# Altium integrated library TI Data Converters Analog to Digital Converter.IntLib: 2197 symbols (part 155 of 168)
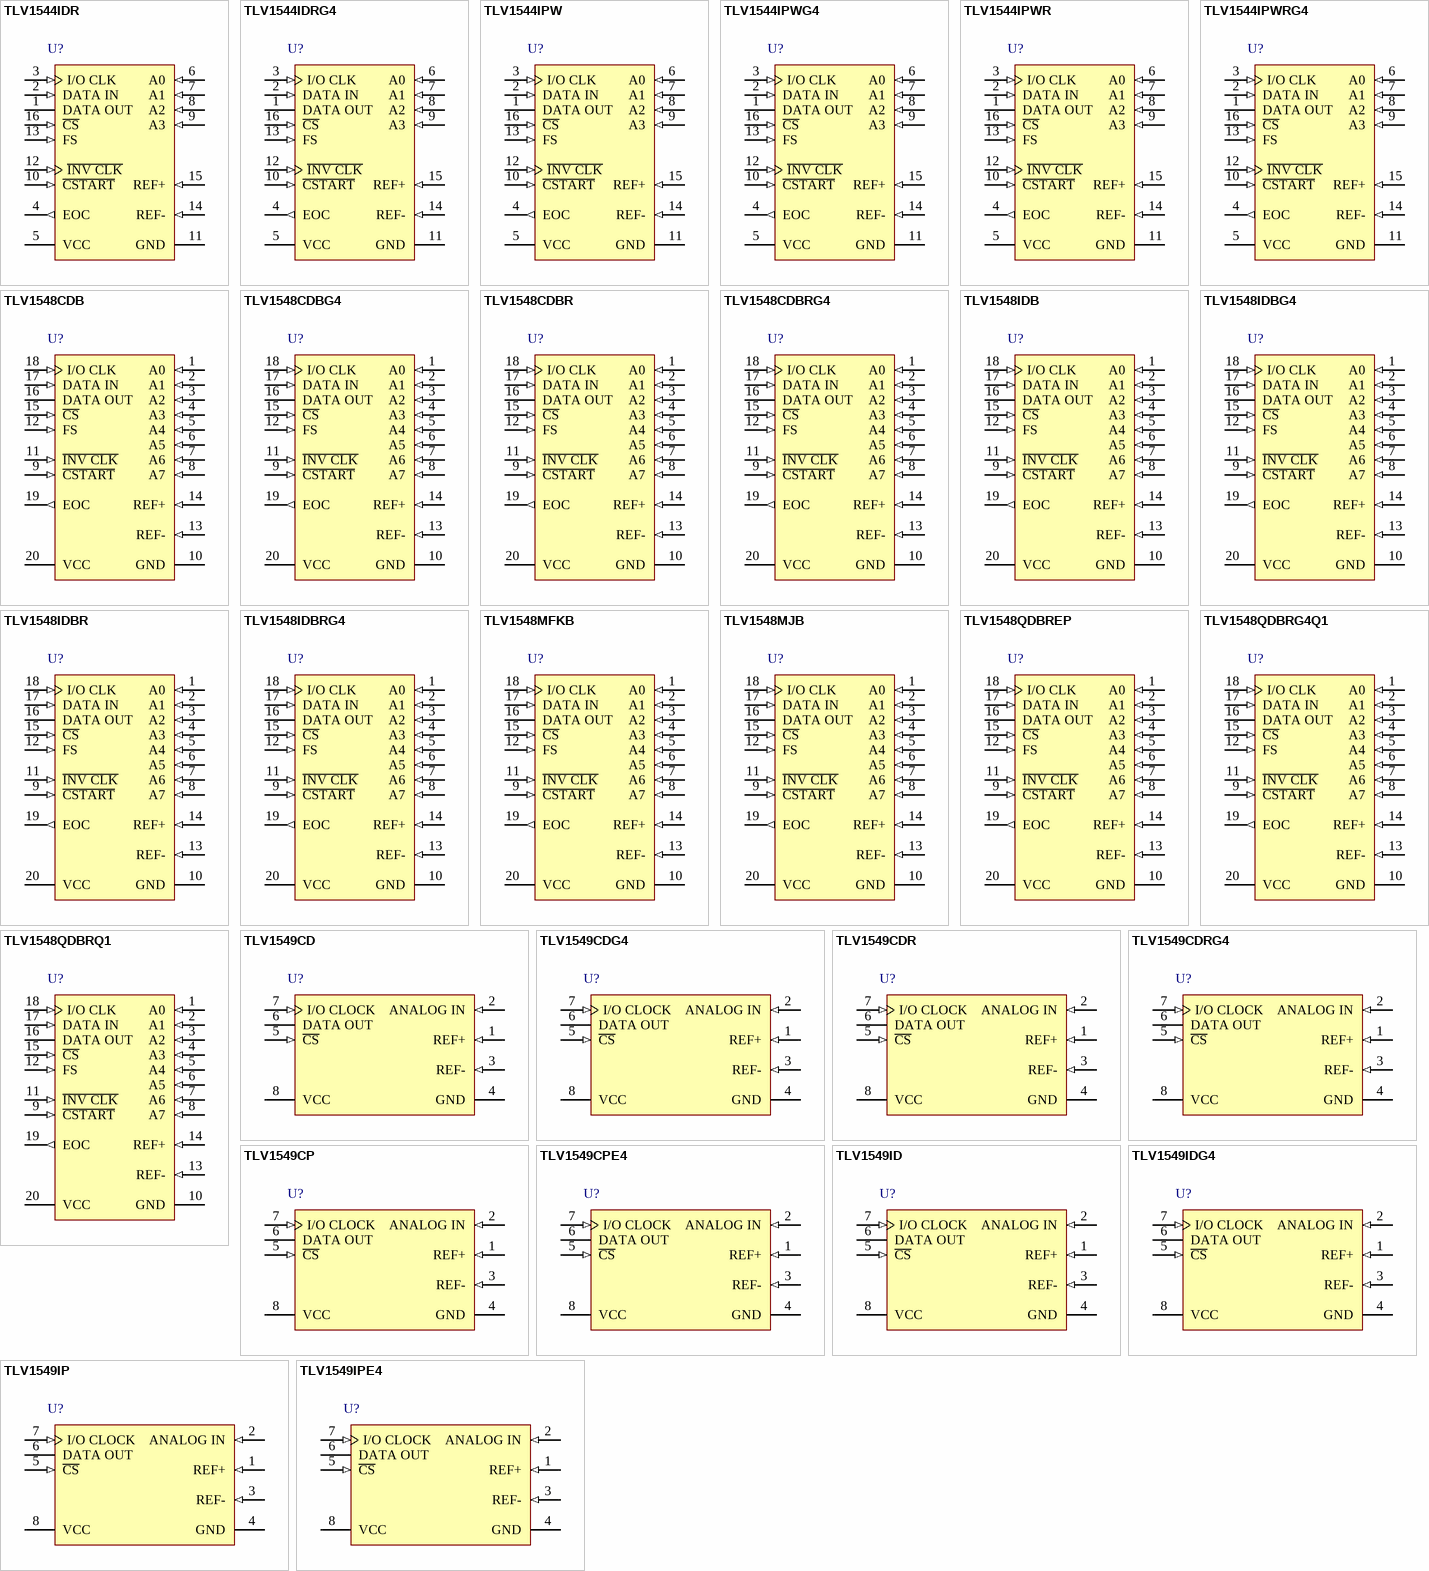
[diagram p280: symbols TLV1544IDR to TLV1549IPE4]

## TLV1548QDBRQ1
designator U?
Automotive Catalog Low-Voltage 10-Bit ADC with Serial Control & 8 Analog Inputs, -40 to 125 degC, 20-pin SOP (DB20), Green (RoHS & no Sb/Br); Manufacturer: Texas Instruments; PartNumber: TLV1548QDBRQ1; # Input Channels: 8; Analog Voltage AV/DD(Max)(V): 5.5; Analog Voltage AV/DD(Min)(V): 2.7; Architecture: SAR; INL(Max)(+/-LSB): 1; Interface: Serial SPI; Resolution(Bits): 10; Sample Rate (max)(SPS): 85k; SubFamily: Precision ADC (<=10MSPS); DatasheetVersion: SGLS172B; PackageVersion: 4040065/E, 12/2001; PackageReference: DB20; PackageDescription: 20-Pin Plastic Small Outline, Body 5.3 x 7.2 mm, Pitch 0.65 mm; Supplier 1: Digi-Key; Supplier Part Number 1: ADS1148IPWR-ND; Supplier 2: Mouser; Supplier Part Number 2: 595-ADS1148IPWR; Digital Supply(Max)(V): 5.5; Digital Supply(Min)(V): 2.7; Eco-Plan: Green (RoHS & no Sb/Br); Mounting Technology: Surface Mount; Code_JEDEC: MO-150; ComponentLink1Description: Manufacturer URL; ComponentLink1URL: http://www.ti.com/; ComponentLink2Description: Datasheet; ComponentLink2URL: http://www.ti.com/general/docs/lit/getliterature.tsp?genericPartNumber=TLV1548-Q1&fileType=pdf; ComponentLink3Description: Package Specification; ComponentLink3URL: http://www.ti.com/lit/ml/msso002e/msso002e.pdf
footprint TI-DB20_N (SOP, 20-Leads, Body 7.2x5.3mm, Pitch 0.65mm, IPC Medium Density)
footprint TI-DB20_L (SOP, 20-Leads, Body 7.2x5.3mm, Pitch 0.65mm, IPC High Density)
footprint TI-DB20_M (SOP, 20-Leads, Body 7.2x5.3mm, Pitch 0.65mm, IPC Low Density)
pins: 1 A0 (in) "Analog inputs. The analog inputs are internally multiplexed. (For a source impedance greater than 1 kohm, the asynchronous start should be used to increase the sampling time.)", 2 A1 (in) "Analog inputs. The analog inputs are internally multiplexed. (For a source impedance greater than 1 kohm, the asynchronous start should be used to increase the sampling time.)", 3 A2 (in) "Analog inputs. The analog inputs are internally multiplexed. (For a source impedance greater than 1 kohm, the asynchronous start should be used to increase the sampling time.)", 4 A3 (in) "Analog inputs. The analog inputs are internally multiplexed. (For a source impedance greater than 1 kohm, the asynchronous start should be used to increase the sampling time.)", 5 A4 (in) "Analog inputs. The analog inputs are internally multiplexed. (For a source impedance greater than 1 kohm, the asynchronous start should be used to increase the sampling time.)", 6 A5 (in) "Analog inputs. The analog inputs are internally multiplexed. (For a source impedance greater than 1 kohm, the asynchronous start should be used to increase the sampling time.)", 7 A6 (in) "Analog inputs. The analog inputs are internally multiplexed. (For a source impedance greater than 1 kohm, the asynchronous start should be used to increase the sampling time.)", 8 A7 (in) "Analog inputs. The analog inputs are internally multiplexed. (For a source impedance greater than 1 kohm, the asynchronous start should be used to increase the sampling time.)", 9 ~{CSTART} (in) "Sampling/conversion start control. C\S\T\A\R\T\ controls the start of the sampling of an analog input from a selected multiplex channel. A high-to-low transition starts the sampling of the analog input signal. A low-to-high (See Datasheet)", 10 GND (power) "Ground return for internal circuitry. All voltage measurements are with respect to GND, unless otherwise noted.", 11 ~{INV CLK} (in) "Inverted clock input. I\N\V\ \C\L\K\ is tied to GND when an inverted I/O CLK is used as the source of the input clock. This affects both microprocessor and DSP interfaces. I\N\V\ \C\L\K\ is tied to VCC if I/O CLK is not (See Datasheet)", 12 FS (in) "DSP frame synchronization input. FS indicates the start of a serial data frame into or out of the device. FS is tied to VCC when interfacing the device with a microprocessor.", 13 REF- (in) "Lower reference voltage (nominally ground)", 14 REF+ (in) "Upper reference voltage (nominally VCC ). The maximum input voltage range is determined by the difference between the voltages applied to REF+ and REF-.", 15 ~{CS} (in) "Chip select. A high-to-low transition on C\S\ resets the internal counters and controls and enables DATA IN, DATA OUT, and I/O CLK within the maximum setup time. A low-to-high transition disables DATA IN, DATA OUT, and I/O (See Datasheet)", 16 DATA OUT (hiz) "The 3-state serial output for the A/D conversion result. DATA OUT is in the high-impedance state when C\S\ is high and active when C\S\ is low. With a valid C\S\, DATA OUT is removed from the high-impedance state and is (See Datasheet)", 17 DATA IN (in) "Serial data input. The 4-bit serial data selects the desired analog input and test voltage to be converted next in a normal cycle. These bits can also set the conversion rate and enable the power-down mode.", 18 I/O CLK (in) "Input/output clock. I/O CLK receives the serial I/O clock input in the two modes and performs the following four functions in each mode:", 19 EOC (out) "End of conversion. EOC goes from a high to a low logic level on the tenth rising (microprocessor mode) or tenth falling (DSP mode) edge of I/O CLK and remains low until the conversion is complete and data is ready for (See Datasheet)", 20 VCC (power) "Positive supply voltage"

## TLV1549CD
designator U?
10-Bit 38 kSPS ADC Serial Out, Inherent S&H Function, Terminal Compatible with TLC1549 and TLC1549x, 0 to 70 degC, 8-pin SOIC (D8), Green (RoHS & no Sb/Br); Manufacturer: Texas Instruments; PartNumber: TLV1549CD; # Input Channels: 1; Analog Voltage AV/DD(Max)(V): 3.6; Analog Voltage AV/DD(Min)(V): 3; Architecture: SAR; Interface: Serial SPI; Resolution(Bits): 10; Sample Rate (max)(SPS): 38K; SubFamily: Low Power, 8-Bit, Dual 1.5 GSPS or Single 3.0 GSPS A/D Converter; DatasheetVersion: SLAS071C; PackageVersion: 4040047-3/M, 06/2011; PackageReference: D8; PackageDescription: 8-Pin Plastic Small Outline, Body 4.9 x 3.9 mm, Pitch 1.27 mm; Supplier 1: Digi-Key; Supplier Part Number 1: 296-27416-5-ND; Supplier 2: Farnell; Supplier Part Number 2: 1823860; Supplier 3: Newark; Supplier Part Number 3: 77R1718; Supplier 4: Mouser; Supplier Part Number 4: 595-ADS1147IPW; Digital Supply(Max)(V): 3.6; Digital Supply(Min)(V): 3; Eco-Plan: Green (RoHS & no Sb/Br); INL(Max)(+/-LSB): 1; Mounting Technology: Surface Mount; Code_JEDEC: MS-012; ComponentLink1Description: Manufacturer URL; ComponentLink1URL: http://www.ti.com/; ComponentLink2Description: Datasheet; ComponentLink2URL: http://www.ti.com/general/docs/lit/getliterature.tsp?genericPartNumber=TLV1549&fileType=pdf; ComponentLink3Description: Package Specification; ComponentLink3URL: http://www.ti.com/litv/pdf/msoi002j
footprint TI-D8_N (SOIC, 8-Leads, Body 4.9x3.9mm, Pitch 1.27mm, IPC Medium Density)
footprint TI-D8_L (SOIC, 8-Leads, Body 4.9x3.9mm, Pitch 1.27mm, IPC High Density)
footprint TI-D8_M (SOIC, 8-Leads, Body 4.9x3.9mm, Pitch 1.27mm, IPC Low Density)
pins: 1 REF+ (in), 2 ANALOG IN (in), 3 REF- (in), 4 GND (power), 5 ~{CS} (in), 6 DATA OUT (hiz), 7 I/O CLOCK (in), 8 VCC (power)

## TLV1549CDG4
designator U?
10-Bit 38 kSPS ADC Serial Out, Inherent S&H Function, Terminal Compatible with TLC1549 and TLC1549x, 0 to 70 degC, 8-pin SOIC (D8), Green (RoHS & no Sb/Br); Manufacturer: Texas Instruments; PartNumber: TLV1549CDG4; # Input Channels: 1; Analog Voltage AV/DD(Max)(V): 3.6; Analog Voltage AV/DD(Min)(V): 3; Architecture: SAR; Interface: Serial SPI; Resolution(Bits): 10; Sample Rate (max)(SPS): 38K; SubFamily: Low Power, 8-Bit, Dual 1.5 GSPS or Single 3.0 GSPS A/D Converter; DatasheetVersion: SLAS071C; PackageVersion: 4040047-3/M, 06/2011; PackageReference: D8; PackageDescription: 8-Pin Plastic Small Outline, Body 4.9 x 3.9 mm, Pitch 1.27 mm; Supplier 1: Digi-Key; Supplier Part Number 1: ADS1147IPWR-ND; Supplier 2: Newark; Supplier Part Number 2: 79R7798; Supplier 3: Mouser; Supplier Part Number 3: 595-ADS1147IPWR; Digital Supply(Max)(V): 3.6; Digital Supply(Min)(V): 3; Eco-Plan: Green (RoHS & no Sb/Br); INL(Max)(+/-LSB): 1; Mounting Technology: Surface Mount; Code_JEDEC: MS-012; ComponentLink1Description: Manufacturer URL; ComponentLink1URL: http://www.ti.com/; ComponentLink2Description: Datasheet; ComponentLink2URL: http://www.ti.com/general/docs/lit/getliterature.tsp?genericPartNumber=TLV1549&fileType=pdf; ComponentLink3Description: Package Specification; ComponentLink3URL: http://www.ti.com/litv/pdf/msoi002j
footprint TI-D8_N (SOIC, 8-Leads, Body 4.9x3.9mm, Pitch 1.27mm, IPC Medium Density)
footprint TI-D8_L (SOIC, 8-Leads, Body 4.9x3.9mm, Pitch 1.27mm, IPC High Density)
footprint TI-D8_M (SOIC, 8-Leads, Body 4.9x3.9mm, Pitch 1.27mm, IPC Low Density)
pins: 1 REF+ (in), 2 ANALOG IN (in), 3 REF- (in), 4 GND (power), 5 ~{CS} (in), 6 DATA OUT (hiz), 7 I/O CLOCK (in), 8 VCC (power)

## TLV1549CDR
designator U?
10-Bit 38 kSPS ADC Serial Out, Inherent S&H Function, Terminal Compatible with TLC1549 and TLC1549x, 0 to 70 degC, 8-pin SOIC (D8), Green (RoHS & no Sb/Br); Manufacturer: Texas Instruments; PartNumber: TLV1549CDR; # Input Channels: 1; Analog Voltage AV/DD(Max)(V): 3.6; Analog Voltage AV/DD(Min)(V): 3; Architecture: SAR; Interface: Serial SPI; Resolution(Bits): 10; Sample Rate (max)(SPS): 38K; SubFamily: Low Power, 8-Bit, Dual 1.5 GSPS or Single 3.0 GSPS A/D Converter; DatasheetVersion: SLAS071C; PackageVersion: 4040047-3/M, 06/2011; PackageReference: D8; PackageDescription: 8-Pin Plastic Small Outline, Body 4.9 x 3.9 mm, Pitch 1.27 mm; Supplier 1: Digi-Key; Supplier Part Number 1: 296-27415-5-ND; Supplier 2: Farnell; Supplier Part Number 2: 1823859; Supplier 3: Newark; Supplier Part Number 3: 77R1717; Supplier 4: Mouser; Supplier Part Number 4: 595-ADS1146IPW; Digital Supply(Max)(V): 3.6; Digital Supply(Min)(V): 3; Eco-Plan: Green (RoHS & no Sb/Br); INL(Max)(+/-LSB): 1; Mounting Technology: Surface Mount; Code_JEDEC: MS-012; ComponentLink1Description: Manufacturer URL; ComponentLink1URL: http://www.ti.com/; ComponentLink2Description: Datasheet; ComponentLink2URL: http://www.ti.com/general/docs/lit/getliterature.tsp?genericPartNumber=TLV1549&fileType=pdf; ComponentLink3Description: Package Specification; ComponentLink3URL: http://www.ti.com/litv/pdf/msoi002j
footprint TI-D8_N (SOIC, 8-Leads, Body 4.9x3.9mm, Pitch 1.27mm, IPC Medium Density)
footprint TI-D8_L (SOIC, 8-Leads, Body 4.9x3.9mm, Pitch 1.27mm, IPC High Density)
footprint TI-D8_M (SOIC, 8-Leads, Body 4.9x3.9mm, Pitch 1.27mm, IPC Low Density)
pins: 1 REF+ (in), 2 ANALOG IN (in), 3 REF- (in), 4 GND (power), 5 ~{CS} (in), 6 DATA OUT (hiz), 7 I/O CLOCK (in), 8 VCC (power)

## TLV1549CDRG4
designator U?
10-Bit 38 kSPS ADC Serial Out, Inherent S&H Function, Terminal Compatible with TLC1549 and TLC1549x, 0 to 70 degC, 8-pin SOIC (D8), Green (RoHS & no Sb/Br); Manufacturer: Texas Instruments; PartNumber: TLV1549CDRG4; # Input Channels: 1; Analog Voltage AV/DD(Max)(V): 3.6; Analog Voltage AV/DD(Min)(V): 3; Architecture: SAR; Interface: Serial SPI; Resolution(Bits): 10; Sample Rate (max)(SPS): 38K; SubFamily: Low Power, 8-Bit, Dual 1.5 GSPS or Single 3.0 GSPS A/D Converter; DatasheetVersion: SLAS071C; PackageVersion: 4040047-3/M, 06/2011; PackageReference: D8; PackageDescription: 8-Pin Plastic Small Outline, Body 4.9 x 3.9 mm, Pitch 1.27 mm; Supplier 1: Digi-Key; Supplier Part Number 1: ADS1146IPWR-ND; Supplier 2: Mouser; Supplier Part Number 2: 595-ADS1146IPWR; Digital Supply(Max)(V): 3.6; Digital Supply(Min)(V): 3; Eco-Plan: Green (RoHS & no Sb/Br); INL(Max)(+/-LSB): 1; Mounting Technology: Surface Mount; Code_JEDEC: MS-012; ComponentLink1Description: Manufacturer URL; ComponentLink1URL: http://www.ti.com/; ComponentLink2Description: Datasheet; ComponentLink2URL: http://www.ti.com/general/docs/lit/getliterature.tsp?genericPartNumber=TLV1549&fileType=pdf; ComponentLink3Description: Package Specification; ComponentLink3URL: http://www.ti.com/litv/pdf/msoi002j
footprint TI-D8_N (SOIC, 8-Leads, Body 4.9x3.9mm, Pitch 1.27mm, IPC Medium Density)
footprint TI-D8_L (SOIC, 8-Leads, Body 4.9x3.9mm, Pitch 1.27mm, IPC High Density)
footprint TI-D8_M (SOIC, 8-Leads, Body 4.9x3.9mm, Pitch 1.27mm, IPC Low Density)
pins: 1 REF+ (in), 2 ANALOG IN (in), 3 REF- (in), 4 GND (power), 5 ~{CS} (in), 6 DATA OUT (hiz), 7 I/O CLOCK (in), 8 VCC (power)

## TLV1549CP
designator U?
10-Bit 38 kSPS ADC Serial Out, Inherent S&H Function, Terminal Compatible with TLC1549 and TLC1549x, 0 to 70 degC, 8-pin DIP (P8), Pb-Free (RoHS); Manufacturer: Texas Instruments; PartNumber: TLV1549CP; # Input Channels: 1; Analog Voltage AV/DD(Max)(V): 3.6; Analog Voltage AV/DD(Min)(V): 3; Architecture: SAR; Interface: Serial SPI; Resolution(Bits): 10; Sample Rate (max)(SPS): 38K; SubFamily: Low Power, 8-Bit, Dual 1.5 GSPS or Single 3.0 GSPS A/D Converter; DatasheetVersion: SLAS071C; PackageVersion: 4040082/E, 04/2010; PackageReference: P8; PackageDescription: 8-Pin Plastic In-Line, Body 9.59 x 6.35 mm, Pitch 2.54 mm; Supplier 1: Digi-Key; Supplier Part Number 1: 296-27203-ND; Supplier 2: Newark; Supplier Part Number 2: 70R1292; Supplier 3: Mouser; Supplier Part Number 3: 595-ADS5400IPZP; Digital Supply(Max)(V): 3.6; Digital Supply(Min)(V): 3; Eco-Plan: Pb-Free (RoHS); INL(Max)(+/-LSB): 1; Mounting Technology: Through Hole; Code_JEDEC: MS-001; ComponentLink1Description: Manufacturer URL; ComponentLink1URL: http://www.ti.com/; ComponentLink2Description: Datasheet; ComponentLink2URL: http://www.ti.com/general/docs/lit/getliterature.tsp?genericPartNumber=TLV1549&fileType=pdf; ComponentLink3Description: Package Specification; ComponentLink3URL: http://www.ti.com/litv/pdf/mpdi001b
footprint TI-P8 (DIP, 8-Leads, Body 9.59x6.35mm, Pitch 2.54mm)
pins: 1 REF+ (in), 2 ANALOG IN (in), 3 REF- (in), 4 GND (power), 5 ~{CS} (in), 6 DATA OUT (hiz), 7 I/O CLOCK (in), 8 VCC (power)

## TLV1549CPE4
designator U?
10-Bit 38 kSPS ADC Serial Out, Inherent S&H Function, Terminal Compatible with TLC1549 and TLC1549x, 0 to 70 degC, 8-pin DIP (P8), Pb-Free (RoHS); Manufacturer: Texas Instruments; PartNumber: TLV1549CPE4; # Input Channels: 1; Analog Voltage AV/DD(Max)(V): 3.6; Analog Voltage AV/DD(Min)(V): 3; Architecture: SAR; Interface: Serial SPI; Resolution(Bits): 10; Sample Rate (max)(SPS): 38K; SubFamily: Low Power, 8-Bit, Dual 1.5 GSPS or Single 3.0 GSPS A/D Converter; DatasheetVersion: SLAS071C; PackageVersion: 4040082/E, 04/2010; PackageReference: P8; PackageDescription: 8-Pin Plastic In-Line, Body 9.59 x 6.35 mm, Pitch 2.54 mm; Supplier 1: Digi-Key; Supplier Part Number 1: ADS5400IPZPR-ND; Supplier 2: Newark; Supplier Part Number 2: 72R4956; Supplier 3: Mouser; Supplier Part Number 3: 595-ADS5400IPZPR; Digital Supply(Max)(V): 3.6; Digital Supply(Min)(V): 3; Eco-Plan: Pb-Free (RoHS); INL(Max)(+/-LSB): 1; Mounting Technology: Through Hole; Code_JEDEC: MS-001; ComponentLink1Description: Manufacturer URL; ComponentLink1URL: http://www.ti.com/; ComponentLink2Description: Datasheet; ComponentLink2URL: http://www.ti.com/general/docs/lit/getliterature.tsp?genericPartNumber=TLV1549&fileType=pdf; ComponentLink3Description: Package Specification; ComponentLink3URL: http://www.ti.com/litv/pdf/mpdi001b
footprint TI-P8 (DIP, 8-Leads, Body 9.59x6.35mm, Pitch 2.54mm)
pins: 1 REF+ (in), 2 ANALOG IN (in), 3 REF- (in), 4 GND (power), 5 ~{CS} (in), 6 DATA OUT (hiz), 7 I/O CLOCK (in), 8 VCC (power)

## TLV1549ID
designator U?
10-Bit 38 kSPS ADC Serial Out, Inherent S&H Function, Terminal Compatible with TLC1549 and TLC1549x, -40 to 85 degC, 8-pin SOIC (D8), Green (RoHS & no Sb/Br); Manufacturer: Texas Instruments; PartNumber: TLV1549ID; # Input Channels: 1; Analog Voltage AV/DD(Max)(V): 3.6; Analog Voltage AV/DD(Min)(V): 3; Architecture: SAR; Interface: Serial SPI; Resolution(Bits): 10; Sample Rate (max)(SPS): 38K; SubFamily: Low Power, 8-Bit, Dual 1.5 GSPS or Single 3.0 GSPS A/D Converter; DatasheetVersion: SLAS071C; PackageVersion: 4040047-3/M, 06/2011; PackageReference: D8; PackageDescription: 8-Pin Plastic Small Outline, Body 4.9 x 3.9 mm, Pitch 1.27 mm; Supplier 1: Digi-Key; Supplier Part Number 1: 296-27183-5-ND; Supplier 2: Farnell; Supplier Part Number 2: 1815709; Supplier 3: Newark; Supplier Part Number 3: 23T0766; Supplier 4: Newark; Supplier Part Number 4: 69R4543; Supplier 5: Mouser; Supplier Part Number 5: 595-ADS1259BIPW; Digital Supply(Max)(V): 3.6; Digital Supply(Min)(V): 3; Eco-Plan: Green (RoHS & no Sb/Br); INL(Max)(+/-LSB): 1; Mounting Technology: Surface Mount; Code_JEDEC: MS-012; ComponentLink1Description: Manufacturer URL; ComponentLink1URL: http://www.ti.com/; ComponentLink2Description: Datasheet; ComponentLink2URL: http://www.ti.com/general/docs/lit/getliterature.tsp?genericPartNumber=TLV1549&fileType=pdf; ComponentLink3Description: Package Specification; ComponentLink3URL: http://www.ti.com/litv/pdf/msoi002j
footprint TI-D8_N (SOIC, 8-Leads, Body 4.9x3.9mm, Pitch 1.27mm, IPC Medium Density)
footprint TI-D8_L (SOIC, 8-Leads, Body 4.9x3.9mm, Pitch 1.27mm, IPC High Density)
footprint TI-D8_M (SOIC, 8-Leads, Body 4.9x3.9mm, Pitch 1.27mm, IPC Low Density)
pins: 1 REF+ (in), 2 ANALOG IN (in), 3 REF- (in), 4 GND (power), 5 ~{CS} (in), 6 DATA OUT (hiz), 7 I/O CLOCK (in), 8 VCC (power)

## TLV1549IDG4
designator U?
10-Bit 38 kSPS ADC Serial Out, Inherent S&H Function, Terminal Compatible with TLC1549 and TLC1549x, -40 to 85 degC, 8-pin SOIC (D8), Green (RoHS & no Sb/Br); Manufacturer: Texas Instruments; PartNumber: TLV1549IDG4; # Input Channels: 1; Analog Voltage AV/DD(Max)(V): 3.6; Analog Voltage AV/DD(Min)(V): 3; Architecture: SAR; Interface: Serial SPI; Resolution(Bits): 10; Sample Rate (max)(SPS): 38K; SubFamily: Low Power, 8-Bit, Dual 1.5 GSPS or Single 3.0 GSPS A/D Converter; DatasheetVersion: SLAS071C; PackageVersion: 4040047-3/M, 06/2011; PackageReference: D8; PackageDescription: 8-Pin Plastic Small Outline, Body 4.9 x 3.9 mm, Pitch 1.27 mm; Supplier 1: Digi-Key; Supplier Part Number 1: ADS1259BIPWR-ND; Supplier 2: Newark; Supplier Part Number 2: 72R4952; Supplier 3: Mouser; Supplier Part Number 3: 595-ADS1259BIPWR; Digital Supply(Max)(V): 3.6; Digital Supply(Min)(V): 3; Eco-Plan: Green (RoHS & no Sb/Br); INL(Max)(+/-LSB): 1; Mounting Technology: Surface Mount; Code_JEDEC: MS-012; ComponentLink1Description: Manufacturer URL; ComponentLink1URL: http://www.ti.com/; ComponentLink2Description: Datasheet; ComponentLink2URL: http://www.ti.com/general/docs/lit/getliterature.tsp?genericPartNumber=TLV1549&fileType=pdf; ComponentLink3Description: Package Specification; ComponentLink3URL: http://www.ti.com/litv/pdf/msoi002j
footprint TI-D8_N (SOIC, 8-Leads, Body 4.9x3.9mm, Pitch 1.27mm, IPC Medium Density)
footprint TI-D8_L (SOIC, 8-Leads, Body 4.9x3.9mm, Pitch 1.27mm, IPC High Density)
footprint TI-D8_M (SOIC, 8-Leads, Body 4.9x3.9mm, Pitch 1.27mm, IPC Low Density)
pins: 1 REF+ (in), 2 ANALOG IN (in), 3 REF- (in), 4 GND (power), 5 ~{CS} (in), 6 DATA OUT (hiz), 7 I/O CLOCK (in), 8 VCC (power)

## TLV1549IP
designator U?
10-Bit 38 kSPS ADC Serial Out, Inherent S&H Function, Terminal Compatible with TLC1549 and TLC1549x, -40 to 85 degC, 8-pin DIP (P8), Pb-Free (RoHS); Manufacturer: Texas Instruments; PartNumber: TLV1549IP; # Input Channels: 1; Analog Voltage AV/DD(Max)(V): 3.6; Analog Voltage AV/DD(Min)(V): 3; Architecture: SAR; Interface: Serial SPI; Resolution(Bits): 10; Sample Rate (max)(SPS): 38K; SubFamily: Low Power, 8-Bit, Dual 1.5 GSPS or Single 3.0 GSPS A/D Converter; DatasheetVersion: SLAS071C; PackageVersion: 4040082/E, 04/2010; PackageReference: P8; PackageDescription: 8-Pin Plastic In-Line, Body 9.59 x 6.35 mm, Pitch 2.54 mm; Supplier 1: Digi-Key; Supplier Part Number 1: 296-27184-5-ND; Supplier 2: Farnell; Supplier Part Number 2: 1815710; Supplier 3: Newark; Supplier Part Number 3: 69R4544; Supplier 4: Mouser; Supplier Part Number 4: 595-ADS1259IPW; Digital Supply(Max)(V): 3.6; Digital Supply(Min)(V): 3; Eco-Plan: Pb-Free (RoHS); INL(Max)(+/-LSB): 1; Mounting Technology: Through Hole; Code_JEDEC: MS-001; ComponentLink1Description: Manufacturer URL; ComponentLink1URL: http://www.ti.com/; ComponentLink2Description: Datasheet; ComponentLink2URL: http://www.ti.com/general/docs/lit/getliterature.tsp?genericPartNumber=TLV1549&fileType=pdf; ComponentLink3Description: Package Specification; ComponentLink3URL: http://www.ti.com/litv/pdf/mpdi001b
footprint TI-P8 (DIP, 8-Leads, Body 9.59x6.35mm, Pitch 2.54mm)
pins: 1 REF+ (in), 2 ANALOG IN (in), 3 REF- (in), 4 GND (power), 5 ~{CS} (in), 6 DATA OUT (hiz), 7 I/O CLOCK (in), 8 VCC (power)

## TLV1549IPE4
designator U?
10-Bit 38 kSPS ADC Serial Out, Inherent S&H Function, Terminal Compatible with TLC1549 and TLC1549x, -40 to 85 degC, 8-pin DIP (P8), Pb-Free (RoHS); Manufacturer: Texas Instruments; PartNumber: TLV1549IPE4; # Input Channels: 1; Analog Voltage AV/DD(Max)(V): 3.6; Analog Voltage AV/DD(Min)(V): 3; Architecture: SAR; Interface: Serial SPI; Resolution(Bits): 10; Sample Rate (max)(SPS): 38K; SubFamily: Low Power, 8-Bit, Dual 1.5 GSPS or Single 3.0 GSPS A/D Converter; DatasheetVersion: SLAS071C; PackageVersion: 4040082/E, 04/2010; PackageReference: P8; PackageDescription: 8-Pin Plastic In-Line, Body 9.59 x 6.35 mm, Pitch 2.54 mm; Supplier 1: Digi-Key; Supplier Part Number 1: ADS1259IPWR-ND; Supplier 2: Mouser; Supplier Part Number 2: 595-ADS1259IPWR; Digital Supply(Max)(V): 3.6; Digital Supply(Min)(V): 3; Eco-Plan: Pb-Free (RoHS); INL(Max)(+/-LSB): 1; Mounting Technology: Through Hole; Code_JEDEC: MS-001; ComponentLink1Description: Manufacturer URL; ComponentLink1URL: http://www.ti.com/; ComponentLink2Description: Datasheet; ComponentLink2URL: http://www.ti.com/general/docs/lit/getliterature.tsp?genericPartNumber=TLV1549&fileType=pdf; ComponentLink3Description: Package Specification; ComponentLink3URL: http://www.ti.com/litv/pdf/mpdi001b
footprint TI-P8 (DIP, 8-Leads, Body 9.59x6.35mm, Pitch 2.54mm)
pins: 1 REF+ (in), 2 ANALOG IN (in), 3 REF- (in), 4 GND (power), 5 ~{CS} (in), 6 DATA OUT (hiz), 7 I/O CLOCK (in), 8 VCC (power)

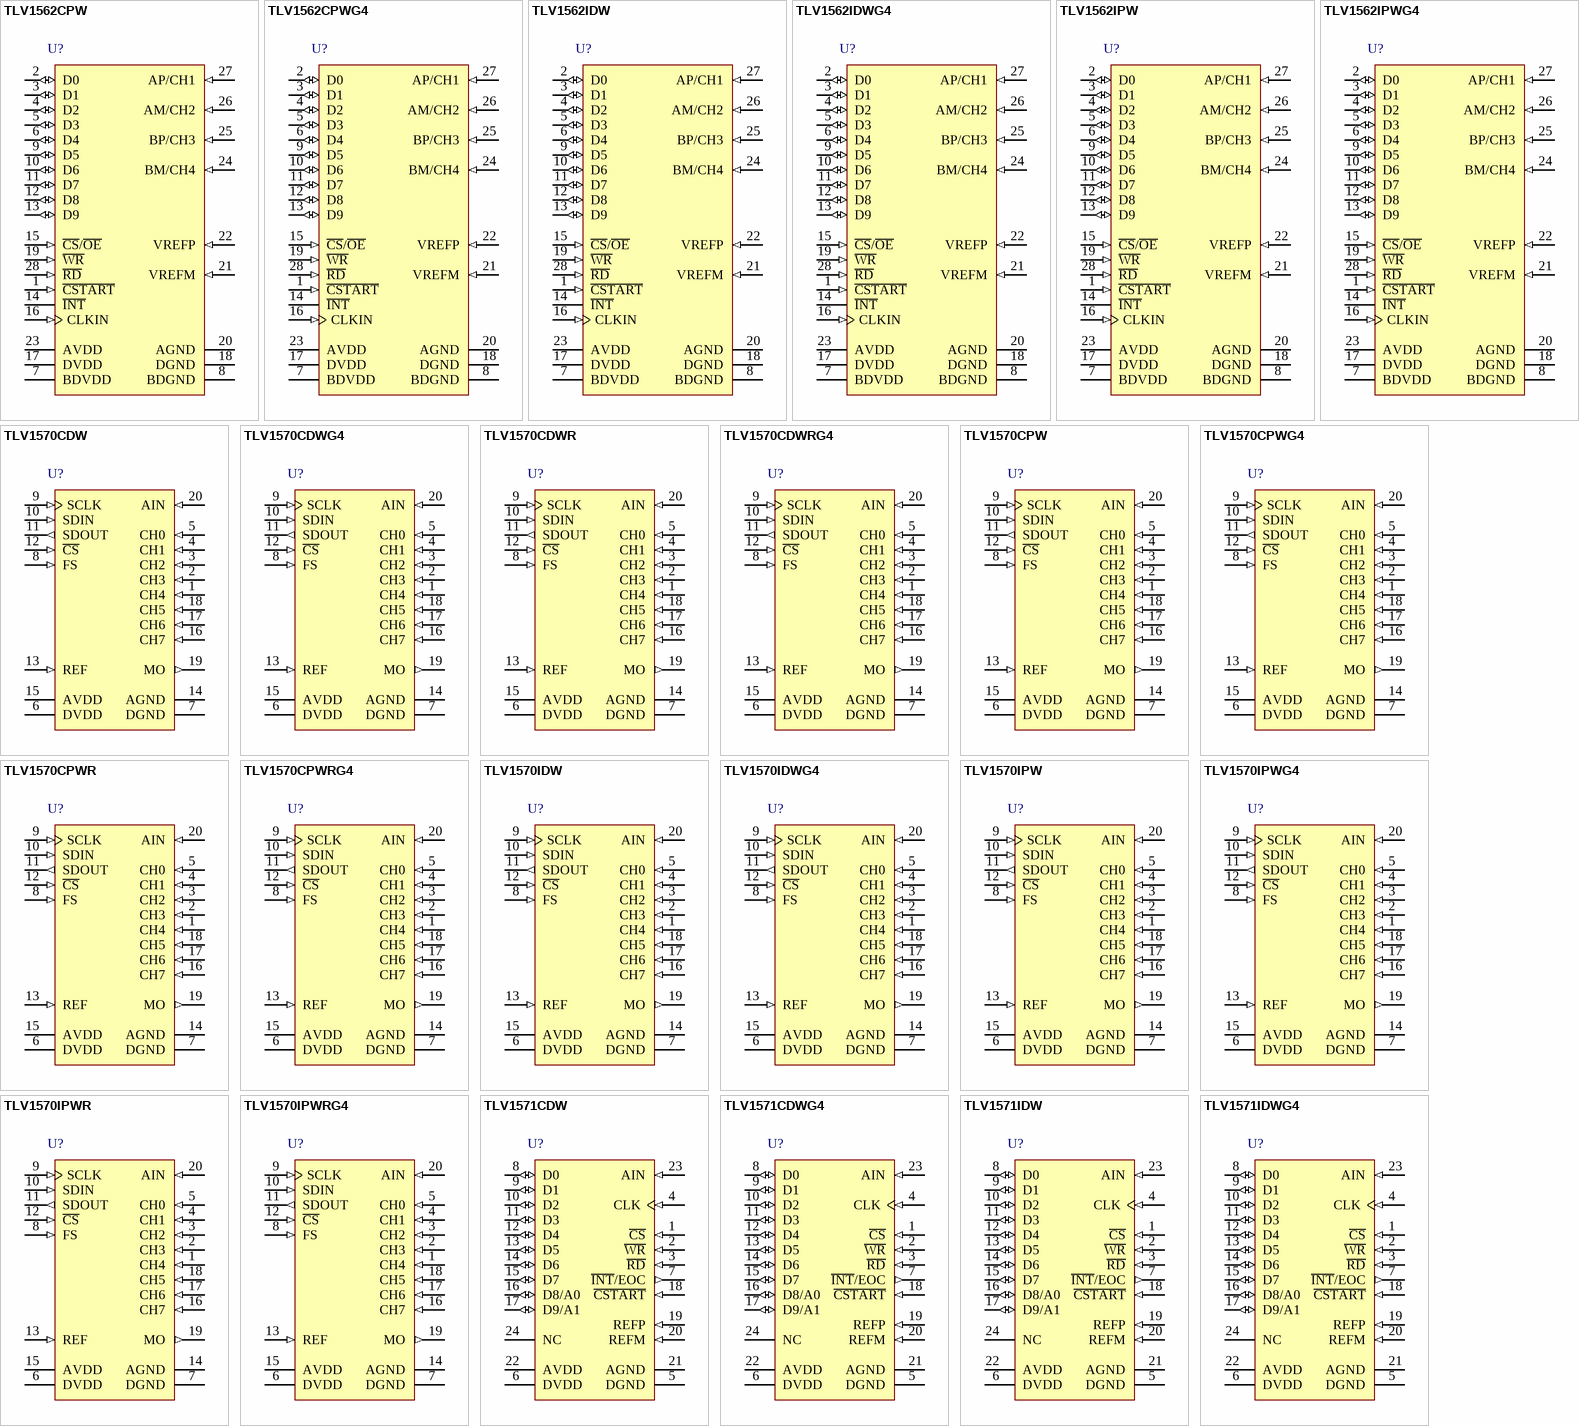
[diagram p120: symbols TLV1562CPW to TLV1571IDWG4]

## TLV1562CPW
designator U?
2.7 to 5.5 V, High-Speed Low-Power Reconfigurable ADC with 4-Input, Dual S/H, Parallel Interface, and Power Down, 0 to 70 degC, 28-pin SOP (PW28), Green (RoHS & no Sb/Br); Manufacturer: Texas Instruments; PartNumber: TLV1562CPW; # Input Channels: 4; Analog Voltage AV/DD(Max)(V): 5.5; Analog Voltage AV/DD(Min)(V): 2.7; Architecture: Pipeline; ENOB(Bits): 9.4; INL(Max)(+/-LSB): 1.5; Interface: Parallel CMOS; Resolution(Bits): 10; Sample Rate (max)(SPS): 2M; SFDR(dB): 70.3; SINAD(dB): 57.8; SNR(dB): 58.1; SubFamily: Precision ADC (<=10MSPS); DatasheetVersion: SLAS162; PackageVersion: 4040064-7/G, 02/2011; PackageReference: PW28; PackageDescription: 28-Pin Plastic Small Outline, Body 9.7 x 4.4 mm, Pitch 0.65 mm; Supplier 1: Digi-Key; Supplier Part Number 1: 296-27221-5-ND; Supplier 2: Farnell; Supplier Part Number 2: 1815708; Supplier 3: Newark; Supplier Part Number 3: 23T0765; Supplier 4: Newark; Supplier Part Number 4: 67R4096; Supplier 5: Mouser; Supplier Part Number 5: 595-ADS1209SPW; Digital Supply(Max)(V): 5.5; Digital Supply(Min)(V): 2.7; Eco-Plan: Green (RoHS & no Sb/Br); Mounting Technology: Surface Mount; Code_JEDEC: MO-153; ComponentLink1Description: Manufacturer URL; ComponentLink1URL: http://www.ti.com/; ComponentLink2Description: Datasheet; ComponentLink2URL: http://www.ti.com/general/docs/lit/getliterature.tsp?genericPartNumber=TLV1562&fileType=pdf; ComponentLink3Description: Package Specification; ComponentLink3URL: http://www.ti.com/litv/pdf/mpds364
footprint TI-PW28_N (SOP, 28-Leads, Body 9.7x4.4mm, Pitch 0.65mm, IPC Medium Density)
footprint TI-PW28_L (SOP, 28-Leads, Body 9.7x4.4mm, Pitch 0.65mm, IPC High Density)
footprint TI-PW28_M (SOP, 28-Leads, Body 9.7x4.4mm, Pitch 0.65mm, IPC Low Density)
pins: 1 ~{CSTART} (in) "Conversion start signal. A falling edge starts the sampling period and a rising edge starts the conversion. This signal acts without C\S\ activated. C\S\T\A\R\T\ connects to DVDD via a 10-kohm pull-up resistor if not used", 2 D0 (io) "The lower bits of the 3-state parallel data bus. Bidirectional. The data bus is 3-stated except when R\D\ or W\R\ is low when C\S\ is low.", 3 D1 (io) "The lower bits of the 3-state parallel data bus. Bidirectional. The data bus is 3-stated except when R\D\ or W\R\ is low when C\S\ is low.", 4 D2 (io) "The lower bits of the 3-state parallel data bus. Bidirectional. The data bus is 3-stated except when R\D\ or W\R\ is low when C\S\ is low.", 5 D3 (io) "The lower bits of the 3-state parallel data bus. Bidirectional. The data bus is 3-stated except when R\D\ or W\R\ is low when C\S\ is low.", 6 D4 (io) "The lower bits of the 3-state parallel data bus. Bidirectional. The data bus is 3-stated except when R\D\ or W\R\ is low when C\S\ is low.", 7 BDVDD (power) "Positive digital supply voltage for I/O buffers", 8 BDGND (power) "Digital ground return for the I/O buffers. Unless otherwise noted, all digital interface voltage measurements are with respect to DGND.", 9 D5 (io) "The higher bits of the 3-state parallel data bus. Bidirectional. The data bus is 3-stated except when R\D\ or W\R\ is low when C\S\ is low. When the host processor writes to the converter, D(9,8) are used as an index to the (See Datasheet)", 10 D6 (io) "The higher bits of the 3-state parallel data bus. Bidirectional. The data bus is 3-stated except when R\D\ or W\R\ is low when C\S\ is low. When the host processor writes to the converter, D(9,8) are used as an index to the (See Datasheet)", 11 D7 (io) "The higher bits of the 3-state parallel data bus. Bidirectional. The data bus is 3-stated except when R\D\ or W\R\ is low when C\S\ is low. When the host processor writes to the converter, D(9,8) are used as an index to the (See Datasheet)", 12 D8 (io) "The higher bits of the 3-state parallel data bus. Bidirectional. The data bus is 3-stated except when R\D\ or W\R\ is low when C\S\ is low. When the host processor writes to the converter, D(9,8) are used as an index to the (See Datasheet)", 13 D9 (io) "The higher bits of the 3-state parallel data bus. Bidirectional. The data bus is 3-stated except when R\D\ or W\R\ is low when C\S\ is low. When the host processor writes to the converter, D(9,8) are used as an index to the (See Datasheet)", 14 ~{INT} (hiz) "Interrupt output. The falling edge of I\N\T\ signals the end of conversion. This output goes from a high impedance state to low logic level on the fifth falling edge of the system clock and remains low until reset by the (See Datasheet)", 15 ~{CS}/~{OE} (in) "Chip select. A high-to-low transition on this input resets the internal counters and controls and enables the output data bus D(0-9) and control inputs (R\D\, W\R\) within a maximum setup time. A low-to-high transition (See Datasheet)", 16 CLKIN (in) "External clock input. (1 MHz to 15 MHz)", 17 DVDD (power) "Positive digital supply voltage", 18 DGND (power) "Digital ground return for the internal digital logic circuitry", 19 ~{WR} (in) "Processor write strobe. Active low. Connection of a 10-k ohm pull-up resistor is optional.", 20 AGND (power) "Analog ground return for the internal circuitry. Unless otherwise noted, all analog voltage measurements are with respect to AGND.", 21 VREFM (in) "The lower voltage reference value is applied to this terminal.", 22 VREFP (in) "The upper reference voltage value is applied to this terminal. The maximum input voltage range is determined by the difference between the voltage applied to this terminal and the VREFM terminal.", 23 AVDD (power) "Positive analog supply voltage", 24 BM/CH4 (in) "Differential channel B input minus or single-ended channel 4", 25 BP/CH3 (in) "Differential channel B input plus or single-ended channel 3", 26 AM/CH2 (in) "Differential channel A input minus or single-ended channel 2", 27 AP/CH1 (in) "Differential channel A input plus or single-ended channel 1", 28 ~{RD} (in) "Processor read strobe or synchronous start of conversion/sampling. The falling edge of R\D\ is used to 1) start the conversion in interrupt-driven mode (if R\D\ is programmed as the start conversion signal); 2) start both (See Datasheet)"

## TLV1562CPWG4
designator U?
2.7 to 5.5 V, High-Speed Low-Power Reconfigurable ADC with 4-Input, Dual S/H, Parallel Interface, and Power Down, 0 to 70 degC, 28-pin SOP (PW28), Green (RoHS & no Sb/Br); Manufacturer: Texas Instruments; PartNumber: TLV1562CPWG4; # Input Channels: 4; Analog Voltage AV/DD(Max)(V): 5.5; Analog Voltage AV/DD(Min)(V): 2.7; Architecture: Pipeline; ENOB(Bits): 9.4; INL(Max)(+/-LSB): 1.5; Interface: Parallel CMOS; Resolution(Bits): 10; Sample Rate (max)(SPS): 2M; SFDR(dB): 70.3; SINAD(dB): 57.8; SNR(dB): 58.1; SubFamily: Precision ADC (<=10MSPS); DatasheetVersion: SLAS162; PackageVersion: 4040064-7/G, 02/2011; PackageReference: PW28; PackageDescription: 28-Pin Plastic Small Outline, Body 9.7 x 4.4 mm, Pitch 0.65 mm; Supplier 1: Digi-Key; Supplier Part Number 1: ADS1209SPWR-ND; Supplier 2: Mouser; Supplier Part Number 2: 595-ADS1209SPWR; Digital Supply(Max)(V): 5.5; Digital Supply(Min)(V): 2.7; Eco-Plan: Green (RoHS & no Sb/Br); Mounting Technology: Surface Mount; Code_JEDEC: MO-153; ComponentLink1Description: Manufacturer URL; ComponentLink1URL: http://www.ti.com/; ComponentLink2Description: Datasheet; ComponentLink2URL: http://www.ti.com/general/docs/lit/getliterature.tsp?genericPartNumber=TLV1562&fileType=pdf; ComponentLink3Description: Package Specification; ComponentLink3URL: http://www.ti.com/litv/pdf/mpds364
footprint TI-PW28_N (SOP, 28-Leads, Body 9.7x4.4mm, Pitch 0.65mm, IPC Medium Density)
footprint TI-PW28_L (SOP, 28-Leads, Body 9.7x4.4mm, Pitch 0.65mm, IPC High Density)
footprint TI-PW28_M (SOP, 28-Leads, Body 9.7x4.4mm, Pitch 0.65mm, IPC Low Density)
pins: 1 ~{CSTART} (in) "Conversion start signal. A falling edge starts the sampling period and a rising edge starts the conversion. This signal acts without C\S\ activated. C\S\T\A\R\T\ connects to DVDD via a 10-kohm pull-up resistor if not used", 2 D0 (io) "The lower bits of the 3-state parallel data bus. Bidirectional. The data bus is 3-stated except when R\D\ or W\R\ is low when C\S\ is low.", 3 D1 (io) "The lower bits of the 3-state parallel data bus. Bidirectional. The data bus is 3-stated except when R\D\ or W\R\ is low when C\S\ is low.", 4 D2 (io) "The lower bits of the 3-state parallel data bus. Bidirectional. The data bus is 3-stated except when R\D\ or W\R\ is low when C\S\ is low.", 5 D3 (io) "The lower bits of the 3-state parallel data bus. Bidirectional. The data bus is 3-stated except when R\D\ or W\R\ is low when C\S\ is low.", 6 D4 (io) "The lower bits of the 3-state parallel data bus. Bidirectional. The data bus is 3-stated except when R\D\ or W\R\ is low when C\S\ is low.", 7 BDVDD (power) "Positive digital supply voltage for I/O buffers", 8 BDGND (power) "Digital ground return for the I/O buffers. Unless otherwise noted, all digital interface voltage measurements are with respect to DGND.", 9 D5 (io) "The higher bits of the 3-state parallel data bus. Bidirectional. The data bus is 3-stated except when R\D\ or W\R\ is low when C\S\ is low. When the host processor writes to the converter, D(9,8) are used as an index to the (See Datasheet)", 10 D6 (io) "The higher bits of the 3-state parallel data bus. Bidirectional. The data bus is 3-stated except when R\D\ or W\R\ is low when C\S\ is low. When the host processor writes to the converter, D(9,8) are used as an index to the (See Datasheet)", 11 D7 (io) "The higher bits of the 3-state parallel data bus. Bidirectional. The data bus is 3-stated except when R\D\ or W\R\ is low when C\S\ is low. When the host processor writes to the converter, D(9,8) are used as an index to the (See Datasheet)", 12 D8 (io) "The higher bits of the 3-state parallel data bus. Bidirectional. The data bus is 3-stated except when R\D\ or W\R\ is low when C\S\ is low. When the host processor writes to the converter, D(9,8) are used as an index to the (See Datasheet)", 13 D9 (io) "The higher bits of the 3-state parallel data bus. Bidirectional. The data bus is 3-stated except when R\D\ or W\R\ is low when C\S\ is low. When the host processor writes to the converter, D(9,8) are used as an index to the (See Datasheet)", 14 ~{INT} (hiz) "Interrupt output. The falling edge of I\N\T\ signals the end of conversion. This output goes from a high impedance state to low logic level on the fifth falling edge of the system clock and remains low until reset by the (See Datasheet)", 15 ~{CS}/~{OE} (in) "Chip select. A high-to-low transition on this input resets the internal counters and controls and enables the output data bus D(0-9) and control inputs (R\D\, W\R\) within a maximum setup time. A low-to-high transition (See Datasheet)", 16 CLKIN (in) "External clock input. (1 MHz to 15 MHz)", 17 DVDD (power) "Positive digital supply voltage", 18 DGND (power) "Digital ground return for the internal digital logic circuitry", 19 ~{WR} (in) "Processor write strobe. Active low. Connection of a 10-k ohm pull-up resistor is optional.", 20 AGND (power) "Analog ground return for the internal circuitry. Unless otherwise noted, all analog voltage measurements are with respect to AGND.", 21 VREFM (in) "The lower voltage reference value is applied to this terminal.", 22 VREFP (in) "The upper reference voltage value is applied to this terminal. The maximum input voltage range is determined by the difference between the voltage applied to this terminal and the VREFM terminal.", 23 AVDD (power) "Positive analog supply voltage", 24 BM/CH4 (in) "Differential channel B input minus or single-ended channel 4", 25 BP/CH3 (in) "Differential channel B input plus or single-ended channel 3", 26 AM/CH2 (in) "Differential channel A input minus or single-ended channel 2", 27 AP/CH1 (in) "Differential channel A input plus or single-ended channel 1", 28 ~{RD} (in) "Processor read strobe or synchronous start of conversion/sampling. The falling edge of R\D\ is used to 1) start the conversion in interrupt-driven mode (if R\D\ is programmed as the start conversion signal); 2) start both (See Datasheet)"

## TLV1562IDW
designator U?
2.7 to 5.5 V, High-Speed Low-Power Reconfigurable ADC with 4-Input, Dual S/H, Parallel Interface, and Power Down, -40 to 85 degC, 28-pin SOIC (DW28), Green (RoHS & no Sb/Br); Manufacturer: Texas Instruments; PartNumber: TLV1562IDW; # Input Channels: 4; Analog Voltage AV/DD(Max)(V): 5.5; Analog Voltage AV/DD(Min)(V): 2.7; Architecture: Pipeline; ENOB(Bits): 9.4; INL(Max)(+/-LSB): 1.5; Interface: Parallel CMOS; Resolution(Bits): 10; Sample Rate (max)(SPS): 2M; SFDR(dB): 70.3; SINAD(dB): 57.8; SNR(dB): 58.1; SubFamily: Precision ADC (<=10MSPS); DatasheetVersion: SLAS162; PackageVersion: 4040000-6/G, 01/2011; PackageReference: DW28; PackageDescription: 28-Pin Plastic Small Outline, Body 17.90 x 7.50 mm, Pitch 1.27 mm; Supplier 1: Digi-Key; Supplier Part Number 1: 296-28266-5-ND; Supplier 2: Farnell; Supplier Part Number 2: 1882255; Supplier 3: Newark; Supplier Part Number 3: 27T6163; Supplier 4: Mouser; Supplier Part Number 4: 595-ADS8331IBPW; Digital Supply(Max)(V): 5.5; Digital Supply(Min)(V): 2.7; Eco-Plan: Green (RoHS & no Sb/Br); Mounting Technology: Surface Mount; Code_JEDEC: MS-013; ComponentLink1Description: Manufacturer URL; ComponentLink1URL: http://www.ti.com/; ComponentLink2Description: Datasheet; ComponentLink2URL: http://www.ti.com/general/docs/lit/getliterature.tsp?genericPartNumber=TLV1562&fileType=pdf; ComponentLink3Description: Package Specification; ComponentLink3URL: http://www.ti.com/lit/ml/mpds175a/mpds175a.pdf
footprint TI-DW28_N (SOIC, 28-Leads, Body 17.9x7.5mm, Pitch 1.27mm, IPC Medium Density)
footprint TI-DW28_L (SOIC, 28-Leads, Body 17.9x7.5mm, Pitch 1.27mm, IPC High Density)
footprint TI-DW28_M (SOIC, 28-Leads, Body 17.9x7.5mm, Pitch 1.27mm, IPC Low Density)
pins: 1 ~{CSTART} (in) "Conversion start signal. A falling edge starts the sampling period and a rising edge starts the conversion. This signal acts without C\S\ activated. C\S\T\A\R\T\ connects to DVDD via a 10-kohm pull-up resistor if not used", 2 D0 (io) "The lower bits of the 3-state parallel data bus. Bidirectional. The data bus is 3-stated except when R\D\ or W\R\ is low when C\S\ is low.", 3 D1 (io) "The lower bits of the 3-state parallel data bus. Bidirectional. The data bus is 3-stated except when R\D\ or W\R\ is low when C\S\ is low.", 4 D2 (io) "The lower bits of the 3-state parallel data bus. Bidirectional. The data bus is 3-stated except when R\D\ or W\R\ is low when C\S\ is low.", 5 D3 (io) "The lower bits of the 3-state parallel data bus. Bidirectional. The data bus is 3-stated except when R\D\ or W\R\ is low when C\S\ is low.", 6 D4 (io) "The lower bits of the 3-state parallel data bus. Bidirectional. The data bus is 3-stated except when R\D\ or W\R\ is low when C\S\ is low.", 7 BDVDD (power) "Positive digital supply voltage for I/O buffers", 8 BDGND (power) "Digital ground return for the I/O buffers. Unless otherwise noted, all digital interface voltage measurements are with respect to DGND.", 9 D5 (io) "The higher bits of the 3-state parallel data bus. Bidirectional. The data bus is 3-stated except when R\D\ or W\R\ is low when C\S\ is low. When the host processor writes to the converter, D(9,8) are used as an index to the (See Datasheet)", 10 D6 (io) "The higher bits of the 3-state parallel data bus. Bidirectional. The data bus is 3-stated except when R\D\ or W\R\ is low when C\S\ is low. When the host processor writes to the converter, D(9,8) are used as an index to the (See Datasheet)", 11 D7 (io) "The higher bits of the 3-state parallel data bus. Bidirectional. The data bus is 3-stated except when R\D\ or W\R\ is low when C\S\ is low. When the host processor writes to the converter, D(9,8) are used as an index to the (See Datasheet)", 12 D8 (io) "The higher bits of the 3-state parallel data bus. Bidirectional. The data bus is 3-stated except when R\D\ or W\R\ is low when C\S\ is low. When the host processor writes to the converter, D(9,8) are used as an index to the (See Datasheet)", 13 D9 (io) "The higher bits of the 3-state parallel data bus. Bidirectional. The data bus is 3-stated except when R\D\ or W\R\ is low when C\S\ is low. When the host processor writes to the converter, D(9,8) are used as an index to the (See Datasheet)", 14 ~{INT} (hiz) "Interrupt output. The falling edge of I\N\T\ signals the end of conversion. This output goes from a high impedance state to low logic level on the fifth falling edge of the system clock and remains low until reset by the (See Datasheet)", 15 ~{CS}/~{OE} (in) "Chip select. A high-to-low transition on this input resets the internal counters and controls and enables the output data bus D(0-9) and control inputs (R\D\, W\R\) within a maximum setup time. A low-to-high transition (See Datasheet)", 16 CLKIN (in) "External clock input. (1 MHz to 15 MHz)", 17 DVDD (power) "Positive digital supply voltage", 18 DGND (power) "Digital ground return for the internal digital logic circuitry", 19 ~{WR} (in) "Processor write strobe. Active low. Connection of a 10-k ohm pull-up resistor is optional.", 20 AGND (power) "Analog ground return for the internal circuitry. Unless otherwise noted, all analog voltage measurements are with respect to AGND.", 21 VREFM (in) "The lower voltage reference value is applied to this terminal.", 22 VREFP (in) "The upper reference voltage value is applied to this terminal. The maximum input voltage range is determined by the difference between the voltage applied to this terminal and the VREFM terminal.", 23 AVDD (power) "Positive analog supply voltage", 24 BM/CH4 (in) "Differential channel B input minus or single-ended channel 4", 25 BP/CH3 (in) "Differential channel B input plus or single-ended channel 3", 26 AM/CH2 (in) "Differential channel A input minus or single-ended channel 2", 27 AP/CH1 (in) "Differential channel A input plus or single-ended channel 1", 28 ~{RD} (in) "Processor read strobe or synchronous start of conversion/sampling. The falling edge of R\D\ is used to 1) start the conversion in interrupt-driven mode (if R\D\ is programmed as the start conversion signal); 2) start both (See Datasheet)"

## TLV1562IDWG4
designator U?
2.7 to 5.5 V, High-Speed Low-Power Reconfigurable ADC with 4-Input, Dual S/H, Parallel Interface, and Power Down, -40 to 85 degC, 28-pin SOIC (DW28), Green (RoHS & no Sb/Br); Manufacturer: Texas Instruments; PartNumber: TLV1562IDWG4; # Input Channels: 4; Analog Voltage AV/DD(Max)(V): 5.5; Analog Voltage AV/DD(Min)(V): 2.7; Architecture: Pipeline; ENOB(Bits): 9.4; INL(Max)(+/-LSB): 1.5; Interface: Parallel CMOS; Resolution(Bits): 10; Sample Rate (max)(SPS): 2M; SFDR(dB): 70.3; SINAD(dB): 57.8; SNR(dB): 58.1; SubFamily: Precision ADC (<=10MSPS); DatasheetVersion: SLAS162; PackageVersion: 4040000-6/G, 01/2011; PackageReference: DW28; PackageDescription: 28-Pin Plastic Small Outline, Body 17.90 x 7.50 mm, Pitch 1.27 mm; Supplier 1: Digi-Key; Supplier Part Number 1: ADS8331IBPWR-ND; Supplier 2: Mouser; Supplier Part Number 2: 595-ADS8331IBPWR; Digital Supply(Max)(V): 5.5; Digital Supply(Min)(V): 2.7; Eco-Plan: Green (RoHS & no Sb/Br); Mounting Technology: Surface Mount; Code_JEDEC: MS-013; ComponentLink1Description: Manufacturer URL; ComponentLink1URL: http://www.ti.com/; ComponentLink2Description: Datasheet; ComponentLink2URL: http://www.ti.com/general/docs/lit/getliterature.tsp?genericPartNumber=TLV1562&fileType=pdf; ComponentLink3Description: Package Specification; ComponentLink3URL: http://www.ti.com/lit/ml/mpds175a/mpds175a.pdf
footprint TI-DW28_N (SOIC, 28-Leads, Body 17.9x7.5mm, Pitch 1.27mm, IPC Medium Density)
footprint TI-DW28_L (SOIC, 28-Leads, Body 17.9x7.5mm, Pitch 1.27mm, IPC High Density)
footprint TI-DW28_M (SOIC, 28-Leads, Body 17.9x7.5mm, Pitch 1.27mm, IPC Low Density)
pins: 1 ~{CSTART} (in) "Conversion start signal. A falling edge starts the sampling period and a rising edge starts the conversion. This signal acts without C\S\ activated. C\S\T\A\R\T\ connects to DVDD via a 10-kohm pull-up resistor if not used", 2 D0 (io) "The lower bits of the 3-state parallel data bus. Bidirectional. The data bus is 3-stated except when R\D\ or W\R\ is low when C\S\ is low.", 3 D1 (io) "The lower bits of the 3-state parallel data bus. Bidirectional. The data bus is 3-stated except when R\D\ or W\R\ is low when C\S\ is low.", 4 D2 (io) "The lower bits of the 3-state parallel data bus. Bidirectional. The data bus is 3-stated except when R\D\ or W\R\ is low when C\S\ is low.", 5 D3 (io) "The lower bits of the 3-state parallel data bus. Bidirectional. The data bus is 3-stated except when R\D\ or W\R\ is low when C\S\ is low.", 6 D4 (io) "The lower bits of the 3-state parallel data bus. Bidirectional. The data bus is 3-stated except when R\D\ or W\R\ is low when C\S\ is low.", 7 BDVDD (power) "Positive digital supply voltage for I/O buffers", 8 BDGND (power) "Digital ground return for the I/O buffers. Unless otherwise noted, all digital interface voltage measurements are with respect to DGND.", 9 D5 (io) "The higher bits of the 3-state parallel data bus. Bidirectional. The data bus is 3-stated except when R\D\ or W\R\ is low when C\S\ is low. When the host processor writes to the converter, D(9,8) are used as an index to the (See Datasheet)", 10 D6 (io) "The higher bits of the 3-state parallel data bus. Bidirectional. The data bus is 3-stated except when R\D\ or W\R\ is low when C\S\ is low. When the host processor writes to the converter, D(9,8) are used as an index to the (See Datasheet)", 11 D7 (io) "The higher bits of the 3-state parallel data bus. Bidirectional. The data bus is 3-stated except when R\D\ or W\R\ is low when C\S\ is low. When the host processor writes to the converter, D(9,8) are used as an index to the (See Datasheet)", 12 D8 (io) "The higher bits of the 3-state parallel data bus. Bidirectional. The data bus is 3-stated except when R\D\ or W\R\ is low when C\S\ is low. When the host processor writes to the converter, D(9,8) are used as an index to the (See Datasheet)", 13 D9 (io) "The higher bits of the 3-state parallel data bus. Bidirectional. The data bus is 3-stated except when R\D\ or W\R\ is low when C\S\ is low. When the host processor writes to the converter, D(9,8) are used as an index to the (See Datasheet)", 14 ~{INT} (hiz) "Interrupt output. The falling edge of I\N\T\ signals the end of conversion. This output goes from a high impedance state to low logic level on the fifth falling edge of the system clock and remains low until reset by the (See Datasheet)", 15 ~{CS}/~{OE} (in) "Chip select. A high-to-low transition on this input resets the internal counters and controls and enables the output data bus D(0-9) and control inputs (R\D\, W\R\) within a maximum setup time. A low-to-high transition (See Datasheet)", 16 CLKIN (in) "External clock input. (1 MHz to 15 MHz)", 17 DVDD (power) "Positive digital supply voltage", 18 DGND (power) "Digital ground return for the internal digital logic circuitry", 19 ~{WR} (in) "Processor write strobe. Active low. Connection of a 10-k ohm pull-up resistor is optional.", 20 AGND (power) "Analog ground return for the internal circuitry. Unless otherwise noted, all analog voltage measurements are with respect to AGND.", 21 VREFM (in) "The lower voltage reference value is applied to this terminal.", 22 VREFP (in) "The upper reference voltage value is applied to this terminal. The maximum input voltage range is determined by the difference between the voltage applied to this terminal and the VREFM terminal.", 23 AVDD (power) "Positive analog supply voltage", 24 BM/CH4 (in) "Differential channel B input minus or single-ended channel 4", 25 BP/CH3 (in) "Differential channel B input plus or single-ended channel 3", 26 AM/CH2 (in) "Differential channel A input minus or single-ended channel 2", 27 AP/CH1 (in) "Differential channel A input plus or single-ended channel 1", 28 ~{RD} (in) "Processor read strobe or synchronous start of conversion/sampling. The falling edge of R\D\ is used to 1) start the conversion in interrupt-driven mode (if R\D\ is programmed as the start conversion signal); 2) start both (See Datasheet)"